# EAGLE library part TCS3200 (library Robotica-IFRN.SC-conectores)
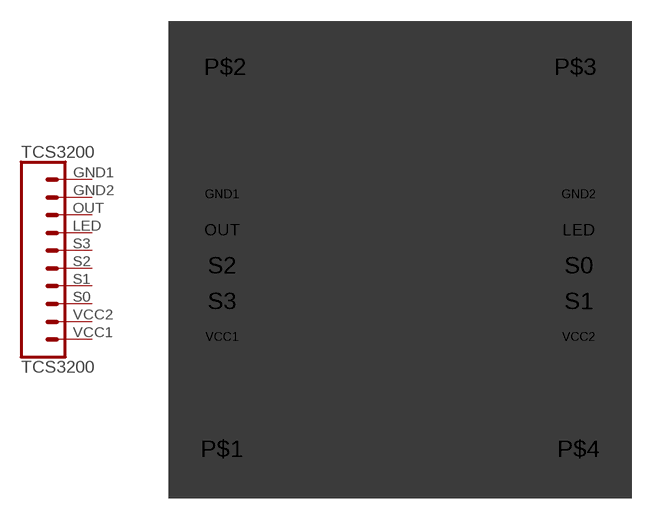
[diagram p64: symbol with the pads of TCS3200; footprint TCS3200]

Designator prefix TCS3200

## TCS3200  [TCS3200]
GND1  GND1  pas
GND2  GND2  pas
LED  LED  pas
OUT  OUT  pas
S0  S0  pas
S1  S1  pas
S2  S2  pas
S3  S3  pas
VCC1  VCC1  pas
VCC2  VCC2  pas

## Footprint TCS3200 (pad centres in mm)
drill 1.118 pad 1.88 long: GND1 -12.69,3.91; GND2 12.71,3.91; LED 12.71,1.37; OUT -12.69,1.37; S0 12.71,-1.17; S1 12.71,-3.71; S2 -12.69,-1.17; S3 -12.69,-3.71; VCC1 -12.69,-6.25; VCC2 12.71,-6.25
drill 2.8: P$1 -12.7,-14.24; P$2 -12.47,12.97; P$3 12.47,12.97; P$4 12.7,-14.24